# EAGLE library part EZ80F92 (library untitled)
eZ80L92/F92/F93 Identical pinouts for all.
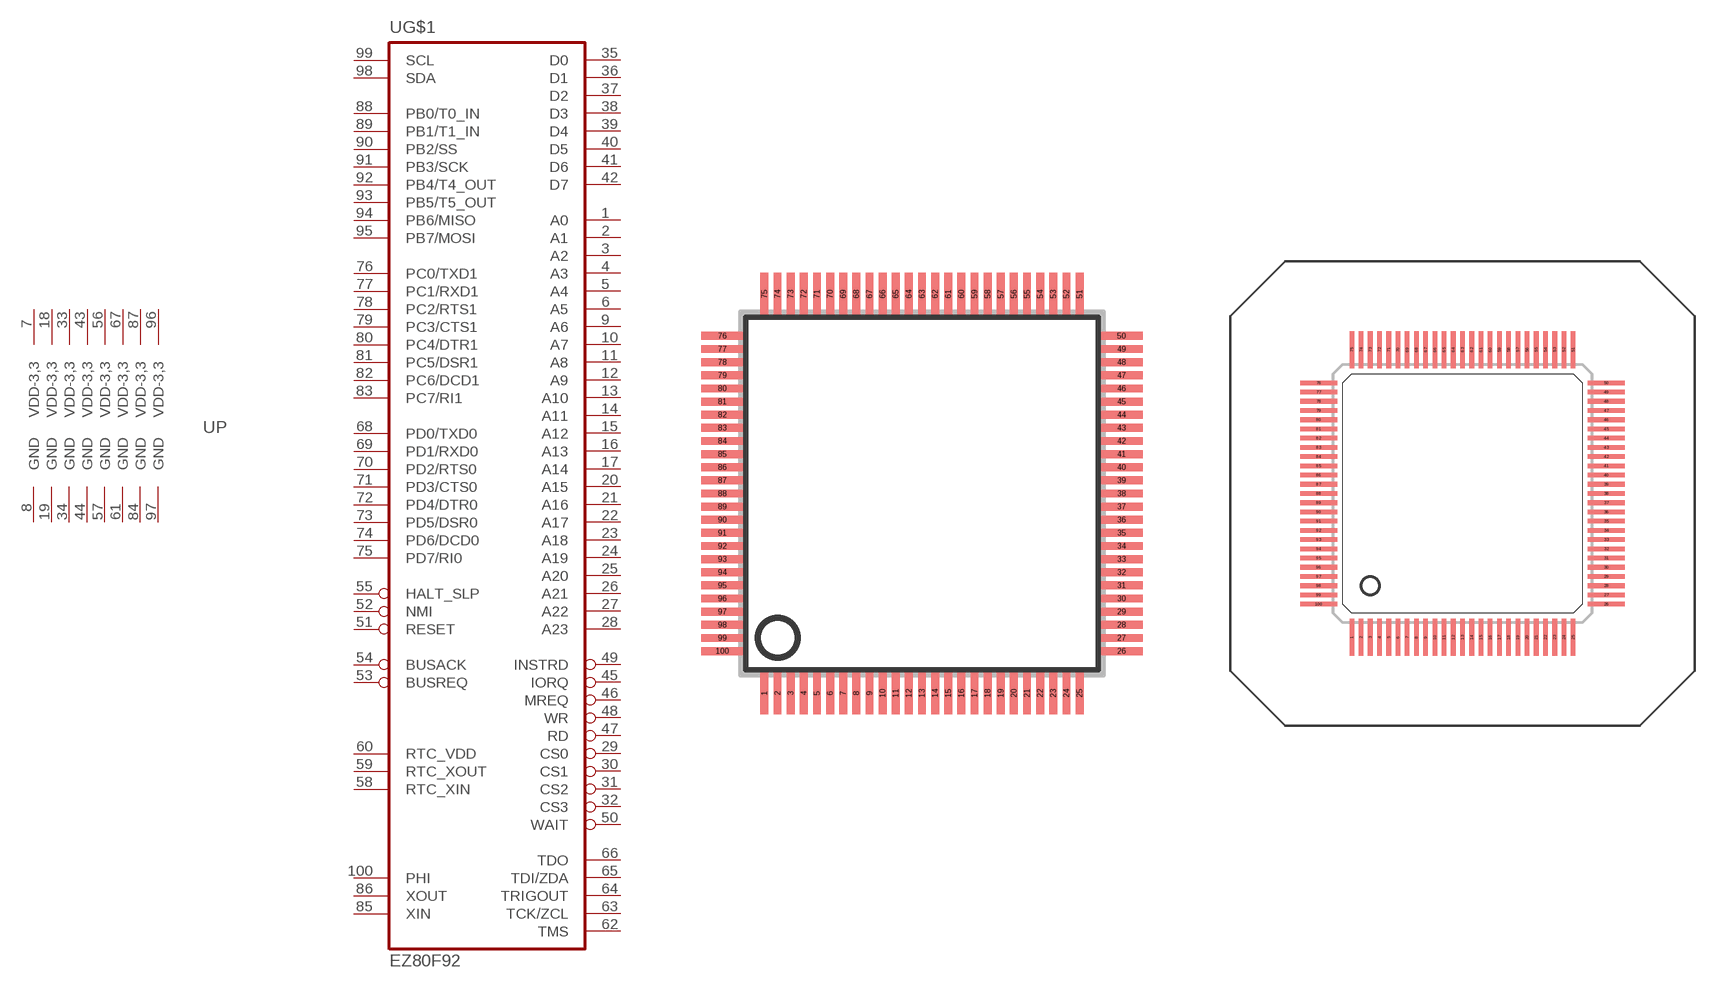
[diagram p0: symbol with the pads of SQFP-S-14X14-100; footprints SQFP-S-14X14-100, IC198-10]

Designator prefix U; gates G$1=EZ80L92 P=PWR80L92

## EZ80F92AZ  [SQFP-S-14X14-100]
1  G$1:A0
2  G$1:A1
3  G$1:A2
4  G$1:A3
5  G$1:A4
6  G$1:A5
7  P:VDD-3,3  pwr
8  P:GND  pwr
9  G$1:A6
10  G$1:A7
11  G$1:A8
12  G$1:A9
13  G$1:A10
14  G$1:A11
15  G$1:A12
16  G$1:A13
17  G$1:A14
18  P:VDD-3,3  pwr
19  P:GND  pwr
20  G$1:A15
21  G$1:A16
22  G$1:A17
23  G$1:A18
24  G$1:A19
25  G$1:A20
26  G$1:A21
27  G$1:A22
28  G$1:A23
29  G$1:CS0  out
30  G$1:CS1  out
31  G$1:CS2  out
32  G$1:CS3  out
33  P:VDD-3,3  pwr
34  P:GND  pwr
35  G$1:D0
36  G$1:D1
37  G$1:D2
38  G$1:D3
39  G$1:D4
40  G$1:D5
41  G$1:D6
42  G$1:D7
43  P:VDD-3,3  pwr
44  P:GND  pwr
45  G$1:IORQ
46  G$1:MREQ
47  G$1:RD  out
48  G$1:WR  out
49  G$1:INSTRD  out
50  G$1:WAIT  in
51  G$1:RESET  in
52  G$1:NMI  in
53  G$1:BUSREQ  in
54  G$1:BUSACK  out
55  G$1:HALT_SLP  out
56  P:VDD-3,3  pwr
57  P:GND  pwr
58  G$1:RTC_XIN  in
59  G$1:RTC_XOUT
60  G$1:RTC_VDD  pwr
61  P:GND  pwr
62  G$1:TMS  in
63  G$1:TCK/ZCL  in
64  G$1:TRIGOUT  out
65  G$1:TDI/ZDA
66  G$1:TDO  out
67  P:VDD-3,3  pwr
68  G$1:PD0/TXD0
69  G$1:PD1/RXD0
70  G$1:PD2/RTS0
71  G$1:PD3/CTS0
72  G$1:PD4/DTR0
73  G$1:PD5/DSR0
74  G$1:PD6/DCD0
75  G$1:PD7/RI0
76  G$1:PC0/TXD1
77  G$1:PC1/RXD1
78  G$1:PC2/RTS1
79  G$1:PC3/CTS1
80  G$1:PC4/DTR1
81  G$1:PC5/DSR1
82  G$1:PC6/DCD1
83  G$1:PC7/RI1
84  P:GND  pwr
85  G$1:XIN  in
86  G$1:XOUT  out
87  P:VDD-3,3  pwr
88  G$1:PB0/T0_IN
89  G$1:PB1/T1_IN
90  G$1:PB2/SS
91  G$1:PB3/SCK
92  G$1:PB4/T4_OUT
93  G$1:PB5/T5_OUT
94  G$1:PB6/MISO
95  G$1:PB7/MOSI
96  P:VDD-3,3  pwr
97  P:GND  pwr
98  G$1:SDA
99  G$1:SCL
100  G$1:PHI  out

## EZ80F92-SOCKET  [IC198-10]
Pads as for SQFP-S-14X14-100

## Footprint SQFP-S-14X14-100 (pad centres in mm)
LQFP-100; 0,5mm pitch
smd 0.3 x 1.6: 1 -6,-7.6; 2 -5.5,-7.6; 3 -5,-7.6; 4 -4.5,-7.6; 5 -4,-7.6; 6 -3.5,-7.6; 7 -3,-7.6; 8 -2.5,-7.6; 9 -2,-7.6; 10 -1.5,-7.6; 11 -1,-7.6; 12 -0.5,-7.6; 13 0,-7.6; 14 0.5,-7.6; 15 1,-7.6; 16 1.5,-7.6; 17 2,-7.6; 18 2.5,-7.6; 19 3,-7.6; 20 3.5,-7.6; 21 4,-7.6; 22 4.5,-7.6; 23 5,-7.6; 24 5.5,-7.6; 25 6,-7.6; 51 6,7.6; 52 5.5,7.6; 53 5,7.6; 54 4.5,7.6; 55 4,7.6; 56 3.5,7.6; 57 3,7.6; 58 2.5,7.6; 59 2,7.6; 60 1.5,7.6; 61 1,7.6; 62 0.5,7.6; 63 0,7.6; 64 -0.5,7.6; 65 -1,7.6; 66 -1.5,7.6; 67 -2,7.6; 68 -2.5,7.6; 69 -3,7.6; 70 -3.5,7.6; 71 -4,7.6; 72 -4.5,7.6; 73 -5,7.6; 74 -5.5,7.6; 75 -6,7.6
smd 1.6 x 0.3: 26 7.6,-6; 27 7.6,-5.5; 28 7.6,-5; 29 7.6,-4.5; 30 7.6,-4; 31 7.6,-3.5; 32 7.6,-3; 33 7.6,-2.5; 34 7.6,-2; 35 7.6,-1.5; 36 7.6,-1; 37 7.6,-0.5; 38 7.6,0; 39 7.6,0.5; 40 7.6,1; 41 7.6,1.5; 42 7.6,2; 43 7.6,2.5; 44 7.6,3; 45 7.6,3.5; 46 7.6,4; 47 7.6,4.5; 48 7.6,5; 49 7.6,5.5; 50 7.6,6; 76 -7.6,6; 77 -7.6,5.5; 78 -7.6,5; 79 -7.6,4.5; 80 -7.6,4; 81 -7.6,3.5; 82 -7.6,3; 83 -7.6,2.5; 84 -7.6,2; 85 -7.6,1.5; 86 -7.6,1; 87 -7.6,0.5; 88 -7.6,0; 89 -7.6,-0.5; 90 -7.6,-1; 91 -7.6,-1.5; 92 -7.6,-2; 93 -7.6,-2.5; 94 -7.6,-3; 95 -7.6,-3.5; 96 -7.6,-4; 97 -7.6,-4.5; 98 -7.6,-5; 99 -7.6,-5.5; 100 -7.6,-6

## Footprint IC198-10 (pad centres in mm)
Yamaichi Production Socket IC-198 Series, with metal lid.
smd 0.25 x 2: 1 -6,-7.8; 2 -5.5,-7.8; 3 -5,-7.8; 4 -4.5,-7.8; 5 -4,-7.8; 6 -3.5,-7.8; 7 -3,-7.8; 8 -2.5,-7.8; 9 -2,-7.8; 10 -1.5,-7.8; 11 -1,-7.8; 12 -0.5,-7.8; 13 0,-7.8; 14 0.5,-7.8; 15 1,-7.8; 16 1.5,-7.8; 17 2,-7.8; 18 2.5,-7.8; 19 3,-7.8; 20 3.5,-7.8; 21 4,-7.8; 22 4.5,-7.8; 23 5,-7.8; 24 5.5,-7.8; 25 6,-7.8; 51 6,7.8; 52 5.5,7.8; 53 5,7.8; 54 4.5,7.8; 55 4,7.8; 56 3.5,7.8; 57 3,7.8; 58 2.5,7.8; 59 2,7.8; 60 1.5,7.8; 61 1,7.8; 62 0.5,7.8; 63 0,7.8; 64 -0.5,7.8; 65 -1,7.8; 66 -1.5,7.8; 67 -2,7.8; 68 -2.5,7.8; 69 -3,7.8; 70 -3.5,7.8; 71 -4,7.8; 72 -4.5,7.8; 73 -5,7.8; 74 -5.5,7.8; 75 -6,7.8
smd 2 x 0.25: 26 7.8,-6; 27 7.8,-5.5; 28 7.8,-5; 29 7.8,-4.5; 30 7.8,-4; 31 7.8,-3.5; 32 7.8,-3; 33 7.8,-2.5; 34 7.8,-2; 35 7.8,-1.5; 36 7.8,-1; 37 7.8,-0.5; 38 7.8,0; 39 7.8,0.5; 40 7.8,1; 41 7.8,1.5; 42 7.8,2; 43 7.8,2.5; 44 7.8,3; 45 7.8,3.5; 46 7.8,4; 47 7.8,4.5; 48 7.8,5; 49 7.8,5.5; 50 7.8,6; 76 -7.8,6; 77 -7.8,5.5; 78 -7.8,5; 79 -7.8,4.5; 80 -7.8,4; 81 -7.8,3.5; 82 -7.8,3; 83 -7.8,2.5; 84 -7.8,2; 85 -7.8,1.5; 86 -7.8,1; 87 -7.8,0.5; 88 -7.8,0; 89 -7.8,-0.5; 90 -7.8,-1; 91 -7.8,-1.5; 92 -7.8,-2; 93 -7.8,-2.5; 94 -7.8,-3; 95 -7.8,-3.5; 96 -7.8,-4; 97 -7.8,-4.5; 98 -7.8,-5; 99 -7.8,-5.5; 100 -7.8,-6